# Altium integrated library Molex.IntLib: 4 symbols
Pins are listed as number, name and electrical type; pins without a type are passive.

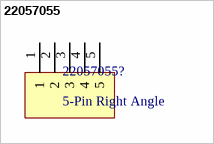
[diagram p0: symbol 22057055]

## 22057055
designator 22057055?, comment 5-Pin Right Angle
footprint 22057055
pins: 1, 2, 3, 4, 5


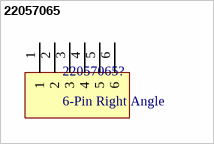
[diagram p1: symbol 22057065]

## 22057065
designator 22057065?, comment 6-Pin Right Angle
footprint 22057065
pins: 1, 2, 3, 4, 5, 6


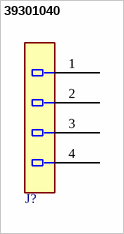
[diagram p2: symbol 39301040]

## 39301040
designator J?  (value not drawn)
4 Circuit ATX
footprint 39301040
pins: 1, 2, 3, 4


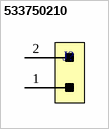
[diagram p3: symbol 533750210]

## 533750210
designator J?
2 Curcuits Mini-Lock PCB Header
footprint 533750210 (2 Curcuits Mini-Lock PCB Header)
pins: 1, 2